# EAGLE library part ATTINY2313-20PU (library Neel)
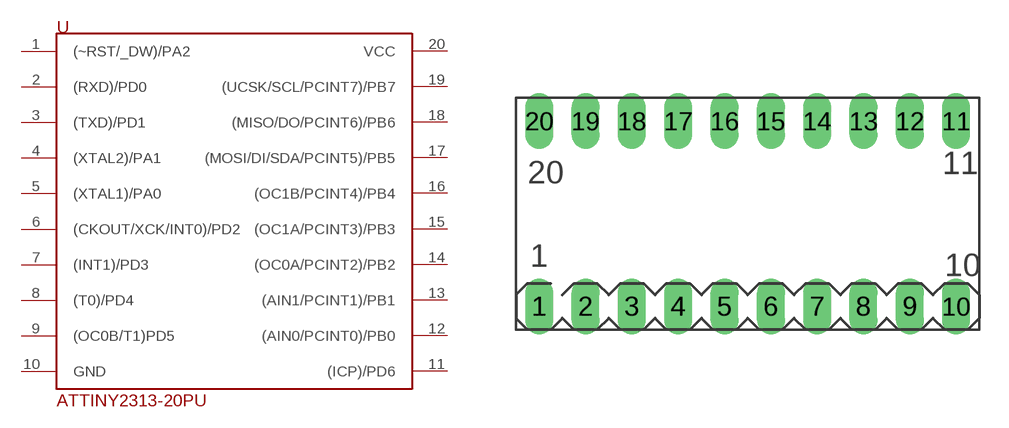
[diagram p4: symbol with the pads of DIP-20; footprint DIP-20]

Designator prefix -

## ATTINY2313-20PU  [DIP-20]
1  (~RST/_DW)/PA2
2  (RXD)/PD0
3  (TXD)/PD1
4  (XTAL2)/PA1
5  (XTAL1)/PA0
6  (CKOUT/XCK/INT0)/PD2
7  (INT1)/PD3
8  (T0)/PD4
9  (OC0B/T1)PD5
10  GND
11  (ICP)/PD6
12  (AIN0/PCINT0)/PB0
13  (AIN1/PCINT1)/PB1
14  (OC0A/PCINT2)/PB2
15  (OC1A/PCINT3)/PB3
16  (OC1B/PCINT4)/PB4
17  (MOSI/DI/SDA/PCINT5)/PB5
18  (MISO/DO/PCINT6)/PB6
19  (UCSK/SCL/PCINT7)/PB7
20  VCC

## Footprint DIP-20 (pad centres in mm)
drill 1.016 long: 1 -11.43,-5.08; 2 -8.89,-5.08; 3 -6.35,-5.08; 4 -3.81,-5.08; 5 -1.27,-5.08; 6 1.27,-5.08; 7 3.81,-5.08; 8 6.35,-5.08; 9 8.89,-5.08; 10 11.43,-5.08; 11 11.43,5.08; 12 8.89,5.08; 13 6.35,5.08; 14 3.81,5.08; 15 1.27,5.08; 16 -1.27,5.08; 17 -3.81,5.08; 18 -6.35,5.08; 19 -8.89,5.08; 20 -11.43,5.08